# Altium integrated library ADC_board.IntLib: 14 symbols
Pins are listed as number, name and electrical type; pins without a type are passive.

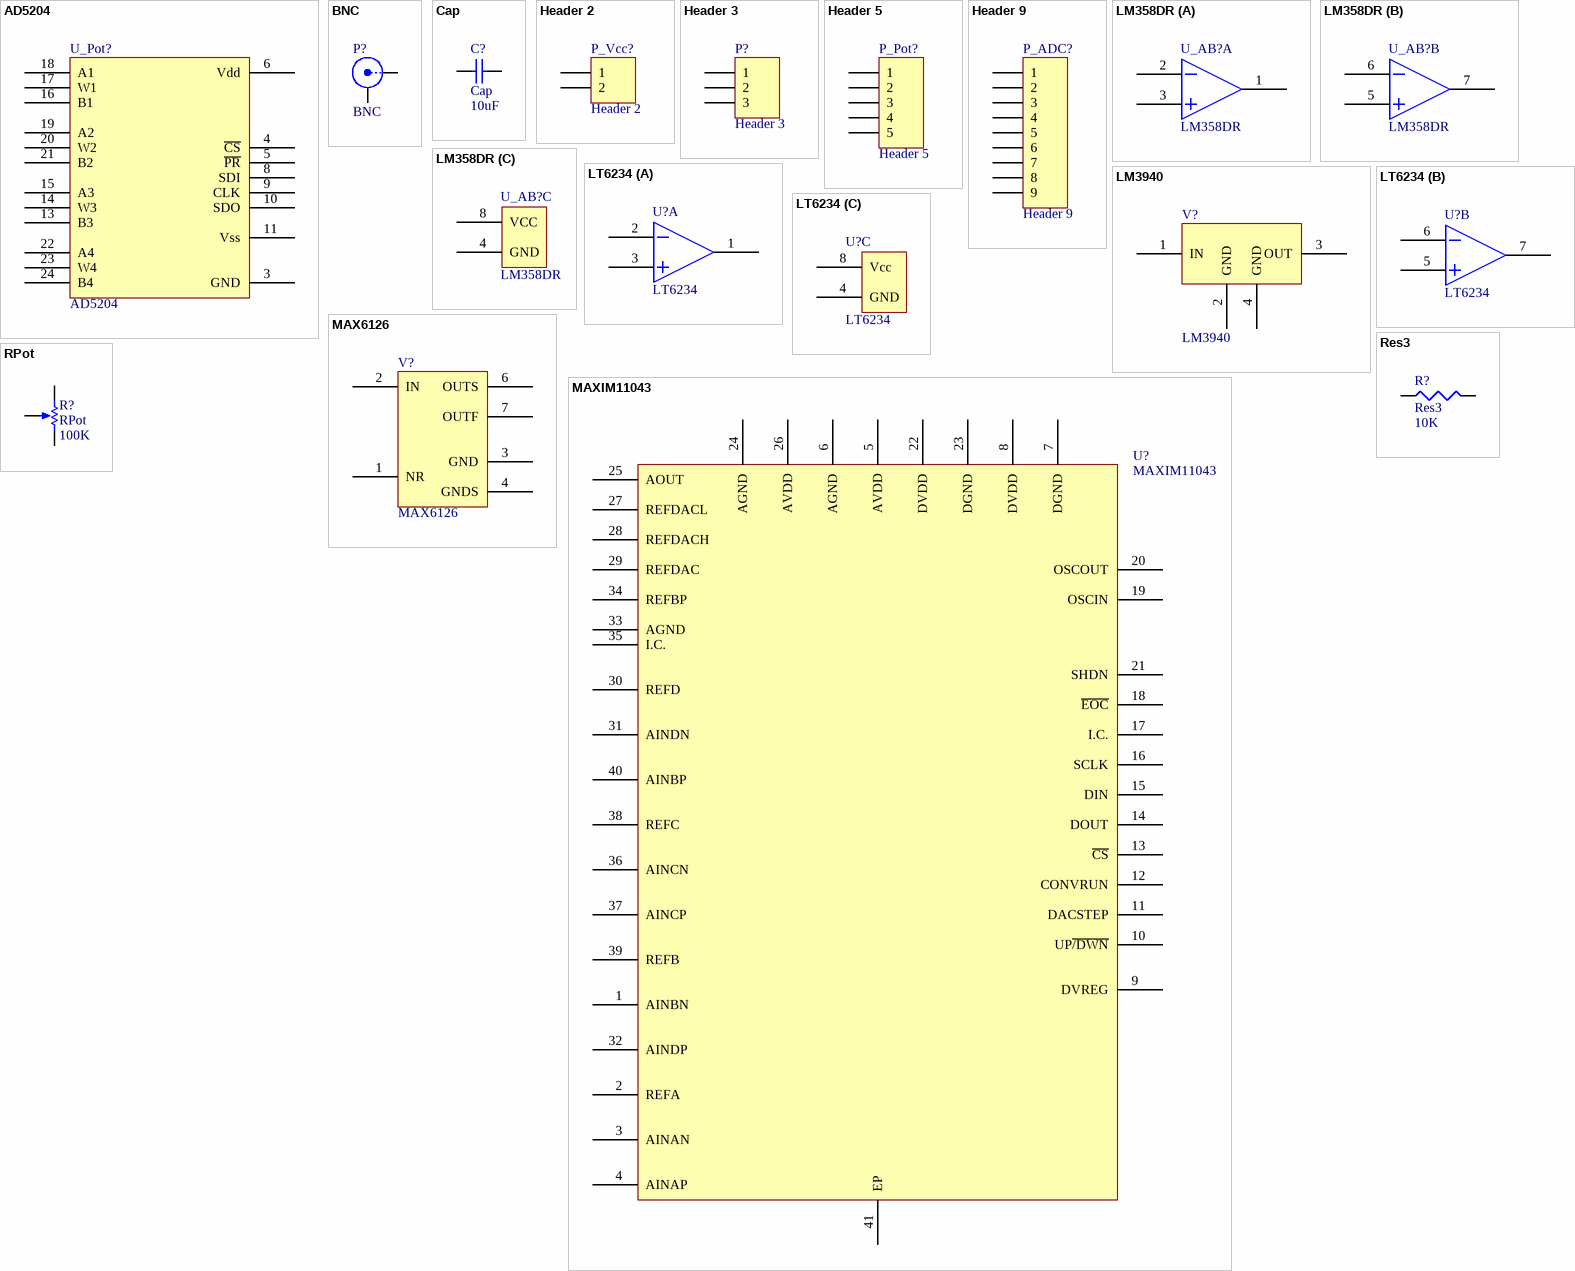
[diagram p0: symbols AD5204 to RPot]

## AD5204
designator U_Pot?
footprint SOIC127P1030X265-24N(AD5204) (SOIC, 24-Leads, Body 15.40x7.50mm, Pitch 1.27mm, IPC Medium Density)
pins: 3 GND, 4 ~{CS}, 5 ~{PR}, 6 Vdd, 8 SDI, 9 CLK, 10 SDO, 11 Vss, 13 B3, 14 W3, 15 A3, 16 B1, 17 W1, 18 A1, 19 A2, 20 W2, 21 B2, 22 A4, 23 W4, 24 B4

## BNC
designator P?
BNC Elbow Connector; LatestRevisionDate: 17-Jul-2002; LatestRevisionNote: Re-released for DXP Platform.; Publisher: Altium Limited
footprint BNC_RA CON (Connector; BNC Elbow)
signal-integrity model Connector
pins: 1 X, 2 Y

## Cap
designator C?  value 10uF
Capacitor; Published: 8-Jun-2000; LatestRevisionDate: 17-Jul-2002; LatestRevisionNote: Re-released for DXP Platform.; PackageReference: RAD-0.3; Publisher: Altium Limited; PackageDescription: Radial Cap, Thru-Hole; 2 Leads; 0.3 in Pin Spacing
footprint 1608[0603] (Chip Capacitor, Body 1.6x0.8mm, IPC High Density)
simulation model CAP (Capacitor)
signal-integrity model Cap
pins: 1, 2

## Header 2
designator P_Vcc?
Header, 2-Pin; LatestRevisionDate: 17-Jul-2002; LatestRevisionNote: Re-released for DXP Platform.; Publisher: Altium Limited
footprint HDR1X2 (Connector; Header; 2 Position)
signal-integrity model Connector
pins: 1, 2

## Header 3
designator P?
Header, 3-Pin; LatestRevisionDate: 17-Jul-2002; LatestRevisionNote: Re-released for DXP Platform.; Publisher: Altium Limited
footprint HDR1X3 (Connector; Header; 3 Position)
signal-integrity model Connector
pins: 1, 2, 3

## Header 5
designator P_Pot?
Header, 5-Pin; LatestRevisionDate: 17-Jul-2002; LatestRevisionNote: Re-released for DXP Platform.; Publisher: Altium Limited
footprint HDR1X5 (Connector; Header; 5 Position)
signal-integrity model Connector
pins: 1, 2, 3, 4, 5

## Header 9
designator P_ADC?
Header, 9-Pin; LatestRevisionDate: 17-Jul-2002; LatestRevisionNote: Re-released for DXP Platform.; Publisher: Altium Limited
footprint HDR1X9 (Connector; Header; 9 Position)
signal-integrity model Connector
pins: 1, 2, 3, 4, 5, 6, 7, 8, 9

## LM358DR
designator U_AB?
footprint SOIC127P600X175-8N(lm358) (SOIC, 8-Leads, Body 4.90x3.90mm, Pitch 1.27mm, IPC Medium Density)
part A pins: 1 1OUT, 2 1IN-, 3 1IN+
part B pins: 5 2IN+, 6 2IN-, 7 2OUT
part C pins: 4 GND, 8 VCC

## LM3940
designator V?
footprint SOT230P700X170-4N (SOT223, 4-Leads, Body 6.50x7.00mm (avg), Pitch 2.30mm, IPC Medium Density)
pins: 1 IN, 2 GND, 3 OUT, 4 GND

## LT6234
designator U?
footprint SOIC127P600X150-8N(LT6233) (SOIC, 8-Leads, Body 4.90x3.90mm, Pitch 1.27mm, IPC Medium Density)
part A pins: 1 OUT A, 2 -IN A, 3 +IN A
part B pins: 5 +IN B, 6 -IN B, 7 OUT B
part C pins: 4 GND, 8 Vcc

## MAX6126
designator V?
footprint SOIC127P600X175-8N(lm358) (SOIC, 8-Leads, Body 4.90x3.90mm, Pitch 1.27mm, IPC Medium Density)
pins: 1 NR, 2 IN, 3 GND, 4 GNDS, 6 OUTS, 7 OUTF

## MAXIM11043
designator U?
footprint 21-0141I_T406600
pins: 1 AINBN, 2 REFA, 3 AINAN, 4 AINAP, 5 AVDD, 6 AGND, 7 DGND, 8 DVDD, 9 DVREG, 10 UP~{/DWN}, 11 DACSTEP, 12 CONVRUN, 13 ~{CS}, 14 DOUT, 15 DIN, 16 SCLK, 17 I.C., 18 ~{EOC}, 19 OSCIN, 20 OSCOUT, 21 SHDN, 22 DVDD, 23 DGND, 24 AGND, 25 AOUT, 26 AVDD, 27 REFDACL, 28 REFDACH, 29 REFDAC, 30 REFD, 31 AINDN, 32 AINDP, 33 AGND, 34 REFBP, 35 I.C., 36 AINCN, 37 AINCP, 38 REFC, 39 REFB, 40 AINBP, 41 EP

## Res3
designator R?  value 10K
Resistor; Published: 8-Jun-2000; LatestRevisionDate: 29-May-2009; LatestRevisionNote: IPC-7351 Footprint Added.; PackageReference: J1-0603; Publisher: Altium Limited; PackageDescription: Chip Resistor
footprint J1-0603 (Chip Resistor, Body 1.6x0.8mm, IPC High Density)
footprint 14-1210 (Chip Resistor, Body 3.2x2.5mm, IPC High Density)
footprint 12Z-2010 (Chip Resistor, Body 5.0x2.5mm, IPC High Density)
footprint RESC6332 (Chip Resistor, Body 6.3x3.2mm, IPC High Density)
simulation model RESISTOR (Resistor)
signal-integrity model Res
pins: 1, 2

## RPot
designator R?  value 100K
Potentiometer; Sim Note: Enter the Resistance value and the set point into parameter fields.; Set Position: 0.5; Published: 8-Jun-2000; LatestRevisionDate: 17-Jul-2002; LatestRevisionNote: Re-released for DXP Platform.; PackageReference: VR5; Publisher: Altium Limited; PackageDescription: Variable Resistor, Thru-Hole; 3 Leads
footprint VR5 (Thru-Hole; 3 Leads)
simulation model POT (Potentiometer)
pins: 1 TOP, 2 BOT, 3 TAP
1 alternate drawing of the same symbol